# EAGLE library part 0.86"-OLED (library components)
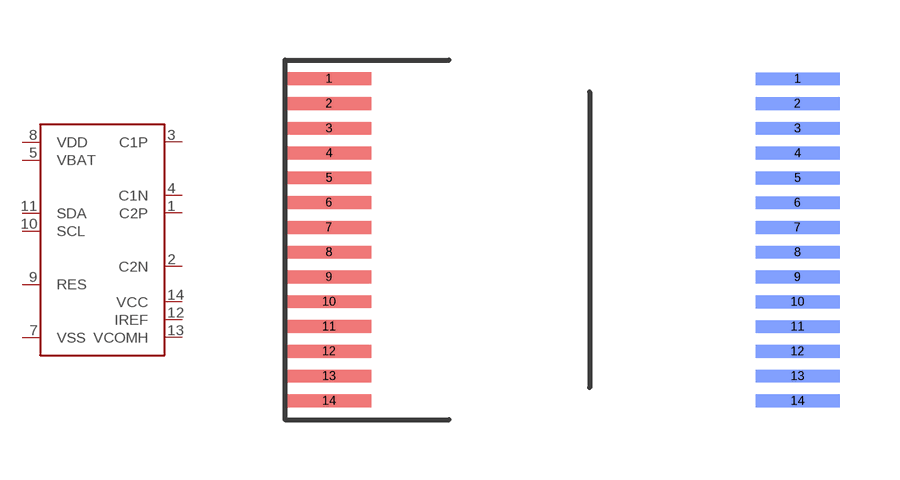
[diagram p1: symbol with the pads of 0.86"-OLED; footprints 0.86"-OLED, 0.86"-OLED-BENT]

Designator prefix -

## 0.86"-OLED  [0.86"-OLED]
1  C2P
2  C2N
3  C1P
4  C1N
5  VBAT
7  VSS
8  VDD
9  RES
10  SCL
11  SDA
12  IREF
13  VCOMH
14  VCC

## 0.86"-OLEDBENT  [0.86"-OLED-BENT]
Pads as for 0.86"-OLED

## Footprint 0.86"-OLED (pad centres in mm)
smd 2.1 x 0.32: 1 0,4.03; 2 0,3.41; 3 0,2.79; 4 0,2.17; 5 0,1.55; 6 0,0.93; 7 0,0.31; 8 0,-0.31; 9 0,-0.93; 10 0,-1.55; 11 0,-2.17; 12 0,-2.79; 13 0,-3.41; 14 0,-4.03

## Footprint 0.86"-OLED-BENT (pad centres in mm)
smd 2.1 x 0.32 bottom: 1 0,4.03; 2 0,3.41; 3 0,2.79; 4 0,2.17; 5 0,1.55; 6 0,0.93; 7 0,0.31; 8 0,-0.31; 9 0,-0.93; 10 0,-1.55; 11 0,-2.17; 12 0,-2.79; 13 0,-3.41; 14 0,-4.03